# EAGLE library part ENCODER-2LED (library sparkswitch)
Illuminated Rotary Encoder w/ 2 LEDs Rotary encoders rotate similarly to potentiometers, but they’re different from potentiometers in that an encoder has full rotation without limits. They output gray code so that you can tell how much and in which direction the encoder has been turned. This encoder has a red/green LED built-in, which shines through the encoder shaft. SparkFun Products Rotary Encoder - Illuminated (Red/Green) <https://www.sparkfun.com/products/10596> (COM-10596) SparkFun Rotary Encoder Breakout - Illuminated (RG/RGB) <https://www.sparkfun.com/products/11722> (BOB-11722)
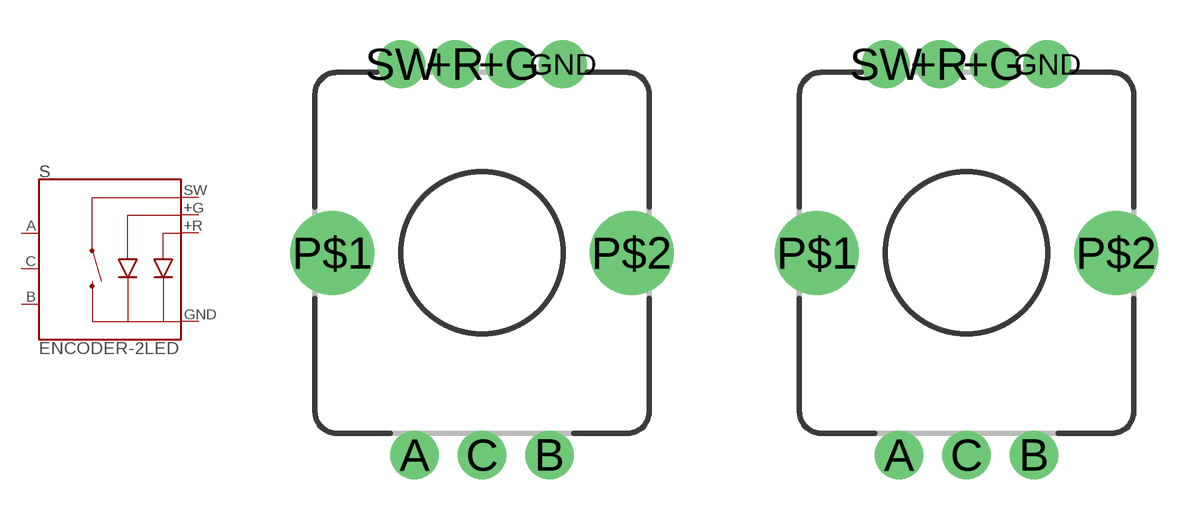
[diagram p4: symbol with the pads of ENCODER_LED_2; footprints ENCODER_LED_2, ENCODER_LED_2_KIT]

Designator prefix S

## ENCODER-2LED (PROD_ID: COMP-11113; SF_SKU: COM-10596)  [ENCODER_LED_2]
+G  +G  pas
+R  +R  pas
A  A
B  B
C  C
GND  -  pas
SW  SW  pas

## ENCODER-2LEDKIT (PROD_ID: COMP-11113; SF_SKU: COM-10596)  [ENCODER_LED_2_KIT]
Pads as for ENCODER_LED_2

## Footprint ENCODER_LED_2 (pad centres in mm)
Illuminated Rotary Encoder w/ 2 LEDs Rotary encoders rotate similarly to potentiometers, but they’re different from potentiometers in that an encoder has full rotation without limits. They output gray code so that you can tell how much and in which direction the encoder has been turned. This encoder has a red/green LED built-in, which shines through the encoder shaft. Datasheet <http://cdn.sparkfun.com/datasheets/Components/LED/EC12PLRVF-D-24K-24-24C-0206-6H%28SPEC%29.pdf> (EC12PLGRSDVF-D-25K-24-32/07-6H)
drill 1.1 pad 1.778: +G 1,7; +R -1,7; GND 3,7; SW -3,7
drill 1.1 pad 1.8: A -2.5,-7.5; B 2.5,-7.5; C 0,-7.5
drill 2.1: P$1 -5.55,0; P$2 5.55,0

## Footprint ENCODER_LED_2_KIT (pad centres in mm)
Illuminated Rotary Encoder w/ 2 LEDs - KIT Package Rotary encoders rotate similarly to potentiometers, but they’re different from potentiometers in that an encoder has full rotation without limits. They output gray code so that you can tell how much and in which direction the encoder has been turned. This encoder has a red/green LED built-in, which shines through the encoder shaft. Warning: This is the KIT version of this package. This package has a smaller diameter top stop mask, which doesn't cover the diameter of the pad. This means only the bottom side of the pads' copper will be exposed. You'll only be able to solder to the bottom side. Datasheet <http://cdn.sparkfun.com/datasheets/Components/LED/EC12PLRVF-D-24K-24-24C-0206-6H%28SPEC%29.pdf> (EC12PLGRSDVF-D-25K-24-32/07-6H)
drill 1.1 pad 1.778: +G 1,7; +R -1,7; GND 3,7; SW -3,7
drill 1.1 pad 1.8: A -2.5,-7.5; B 2.5,-7.5; C 0,-7.5
drill 2.1: P$1 -5.55,0; P$2 5.55,0